# EAGLE library part CC2541 (library talons-microcontrollers)
ATMEL ATmega328 Manufacturer <http://www.ti.com/product/CC2541x> Octopart <https://octopart.com/search?q=cc2541>
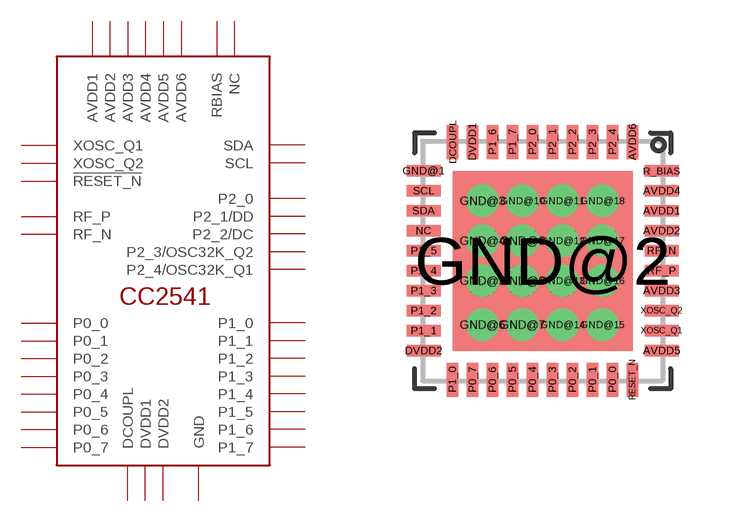
[diagram p4: symbol with the pads of S-PVQFN-N40; footprint S-PVQFN-N40]

Designator prefix -

## CC2541  [S-PVQFN-N40]
AVDD1  AVDD1  pwr
AVDD2  AVDD2  pwr
AVDD3  AVDD3  pwr
AVDD4  AVDD4  pwr
AVDD5  AVDD5  pwr
AVDD6  AVDD6  pwr
DCOUPL  DCOUPL  pwr
DVDD1  DVDD1  pwr
DVDD2  DVDD2  pwr
GND@1  GND  pwr
GND@2  GND  pwr
GND@3  GND  pwr
GND@4  GND  pwr
GND@5  GND  pwr
GND@6  GND  pwr
GND@7  GND  pwr
GND@8  GND  pwr
GND@9  GND  pwr
GND@10  GND  pwr
GND@11  GND  pwr
GND@12  GND  pwr
GND@13  GND  pwr
GND@14  GND  pwr
GND@15  GND  pwr
GND@16  GND  pwr
GND@17  GND  pwr
GND@18  GND  pwr
NC  NC  nc
P0_0  P0_0
P0_1  P0_1
P0_2  P0_2
P0_3  P0_3
P0_4  P0_4
P0_5  P0_5
P0_6  P0_6
P0_7  P0_7
P1_0  P1_0
P1_1  P1_1
P1_2  P1_2
P1_3  P1_3
P1_4  P1_4
P1_5  P1_5
P1_6  P1_6
P1_7  P1_7
P2_0  P2_0
P2_1  P2_1/DD
P2_2  P2_2/DC
P2_3  P2_3/OSC32K_Q2
P2_4  P2_4/OSC32K_Q1
R_BIAS  RBIAS
RESET_N  !RESET_N  in
RF_N  RF_N
RF_P  RF_P
SCL  SCL
SDA  SDA
XOSC_Q1  XOSC_Q1
XOSC_Q2  XOSC_Q2

## Footprint S-PVQFN-N40 (pad centres in mm)
smd 0.85 x 0.28: AVDD1 2.975,1.25; AVDD2 2.975,0.75; AVDD3 2.975,-0.75; AVDD4 2.975,1.75; AVDD5 2.975,-2.25; DVDD2 -2.975,-2.25; GND@1 -2.975,2.25; NC -2.975,0.75; P1_1 -2.975,-1.75; P1_2 -2.975,-1.25; P1_3 -2.975,-0.75; P1_4 -2.975,-0.25; P1_5 -2.975,0.25; R_BIAS 2.975,2.25; RF_N 2.975,0.25; RF_P 2.975,-0.25; SCL -2.975,1.75; SDA -2.975,1.25; XOSC_Q1 2.975,-1.75; XOSC_Q2 2.975,-1.25
smd 0.28 x 0.85: AVDD6 2.25,2.975; DCOUPL -2.25,2.975; DVDD1 -1.75,2.975; P0_0 1.75,-2.975; P0_1 1.25,-2.975; P0_2 0.75,-2.975; P0_3 0.25,-2.975; P0_4 -0.25,-2.975; P0_5 -0.75,-2.975; P0_6 -1.25,-2.975; P0_7 -1.75,-2.975; P1_0 -2.25,-2.975; P1_6 -1.25,2.975; P1_7 -0.75,2.975; P2_0 -0.25,2.975; P2_1 0.25,2.975; P2_2 0.75,2.975; P2_3 1.25,2.975; P2_4 1.75,2.975; RESET_N 2.25,-2.975
smd 4.5 x 4.5: GND@2 0,0
drill 0.3: GND@3 -1.5,1.5; GND@4 -1.5,0.5; GND@5 -1.5,-0.5; GND@6 -1.5,-1.6; GND@7 -0.5,-1.6; GND@8 -0.5,-0.5; GND@9 -0.5,0.5; GND@10 -0.5,1.5; GND@11 0.5,1.5; GND@12 0.5,0.5; GND@13 0.5,-0.5; GND@14 0.5,-1.6; GND@15 1.5,-1.6; GND@16 1.5,-0.5; GND@17 1.5,0.5; GND@18 1.5,1.5